# Altium schematic symbol library Sensor_MAX30205_1.Schlib: 1 symbol
Pins are listed as number, name and electrical type; pins without a type are passive.

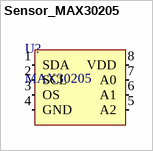
[diagram p0: symbol Sensor_MAX30205]

## Sensor_MAX30205
designator U?, comment MAX30205
Human Body Temperature Sensor; ComponentLink1Description: Datasheet; ComponentLink1URL: https://datasheets.maximintegrated.com/en/ds/MAX30205.pdf
footprint MAX30205 - TQFN8
pins: 1 SDA, 2 SCL, 3 OS, 4 GND, 5 A2, 6 A1, 7 A0, 8 VDD